# Altium schematic symbol library SRU8043-220Y.SCHLIB: 1 symbol
Pins are listed as number, name and electrical type; pins without a type are passive.

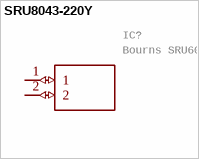
[diagram p0: symbol SRU8043-220Y]

## SRU8043-220Y
designator IC?, comment Bourns SRU6043 Series Shielded Wire-wound SMD Inductor with a Ferrite Core, 22 uH +/-30% Wire-Wound Q:24   Source:  Datasheet
GateName_1: G$1; SymbolName_1: SRU8043-220Y; LibraryName: SRU8043-220Y; DeviceSetName: SRU8043-220Y; Package: SRU8043220Y; Manufacturer_Name: Bourns; Manufacturer_Part_Number: SRU8043-220Y; Mouser_Part_Number: 652-SRU8043-220Y; Mouser_Price-Stock: https://www.mouser.co.uk/ProductDetail/Bourns/SRU8043-220Y?qs=3fQS%252B%2FKBkgzsqu9QDdXSwQ%3D%3D; Arrow_Part_Number: SRU8043-220Y; Arrow_Price-Stock: https://www.arrow.com/en/products/sru8043-220y/bourns; Description: Bourns SRU6043 Series Shielded Wire-wound SMD Inductor with a Ferrite Core, 22 uH +/-30% Wire-Wound Q:24; Height: 4.6mm
footprint SRU8043220Y
pins: 1 (io), 2 (io)